# EAGLE library part NAU7802 (library ICs)
24-Bit Dual-Channel ADC For Bridge Sensors
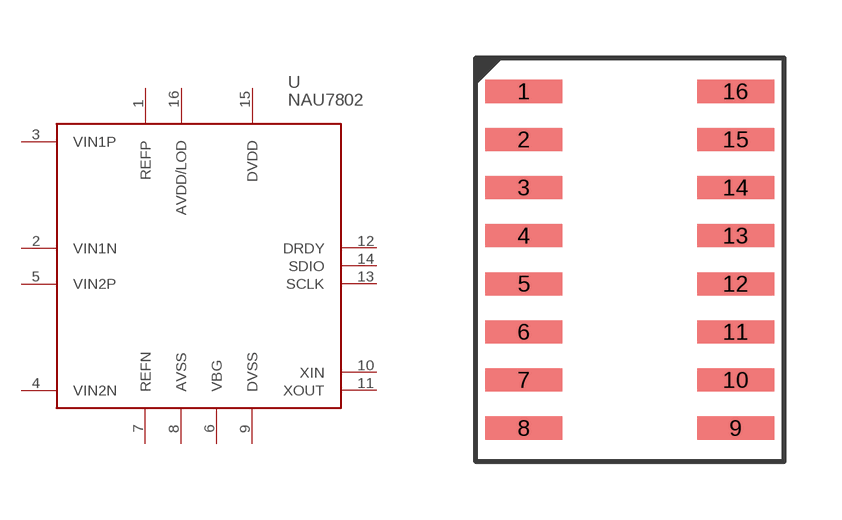
[diagram p167: symbol with the pads of SO16; footprint SO16]

Designator prefix U

## NAU7802 (DIGIKEY: NAU7802SGI-ND; PRICE_PER: 1.36; VALUE: NAU7802)  [SO16]
1  REFP
2  VIN1N
3  VIN1P
4  VIN2N
5  VIN2P
6  VBG
7  REFN
8  AVSS
9  DVSS
10  XIN
11  XOUT
12  DRDY
13  SCLK
14  SDIO
15  DVDD
16  AVDD/LOD

## Footprint SO16 (pad centres in mm)
smd 2 x 0.6: 1 -2.75,4.375; 2 -2.75,3.125; 3 -2.75,1.875; 4 -2.75,0.625; 5 -2.75,-0.625; 6 -2.75,-1.875; 7 -2.75,-3.125; 8 -2.75,-4.375; 9 2.75,-4.375; 10 2.75,-3.125; 11 2.75,-1.875; 12 2.75,-0.625; 13 2.75,0.625; 14 2.75,1.875; 15 2.75,3.125; 16 2.75,4.375